# EAGLE library part A044-1237.5M1 (library saw-filters-narrowband)
A044-1237.5M1 Параметр Ед. изм. Мин. значение Тип. значение Макс. значение Центральная частота МГц 1235 1237.5 1240 Минимальное вносимое затухание дБ 1.8 1.9 2.1 Полоса среза по уровню -2 дБ МГц 53 55 57 Полоса среза по уровню -30 дБ МГц 86 87 90 Неравномерность АЧХ дБ 0.7 1 1.5 Групповое время задержки нс 7 9 - Гарантированное затухание дБ - 30 - Температурный диапазон °C -55 22 +85 Материал подложки - - Ниобат лития 64 - Разработан: ООО"АЭК Дизайн" Серийное производство: ООО"АЭК
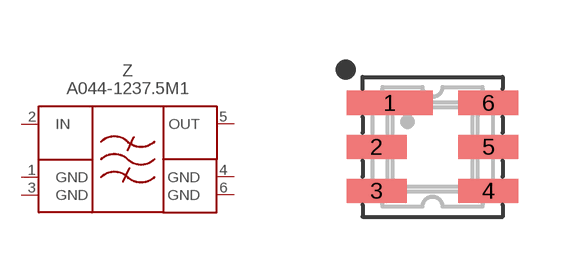
[diagram p55: symbol with the pads of DCC6; footprint DCC6]

Designator prefix Z

## A044-1237.5M1  [DCC6]
1  GND  pwr
2  IN  in
3  GND  pwr
4  GND  pwr
5  OUT  out
6  GND  pwr

## Footprint DCC6 (pad centres in mm)
smd 2.15 x 0.6: 1 -1.075,1.1
smd 1.5 x 0.6: 2 -1.4,0; 3 -1.4,-1.1; 4 1.4,-1.1; 5 1.4,0; 6 1.4,1.1